# Altium integrated library TI Data Converters Analog to Digital Converter.IntLib: 2197 symbols (part 57 of 168)
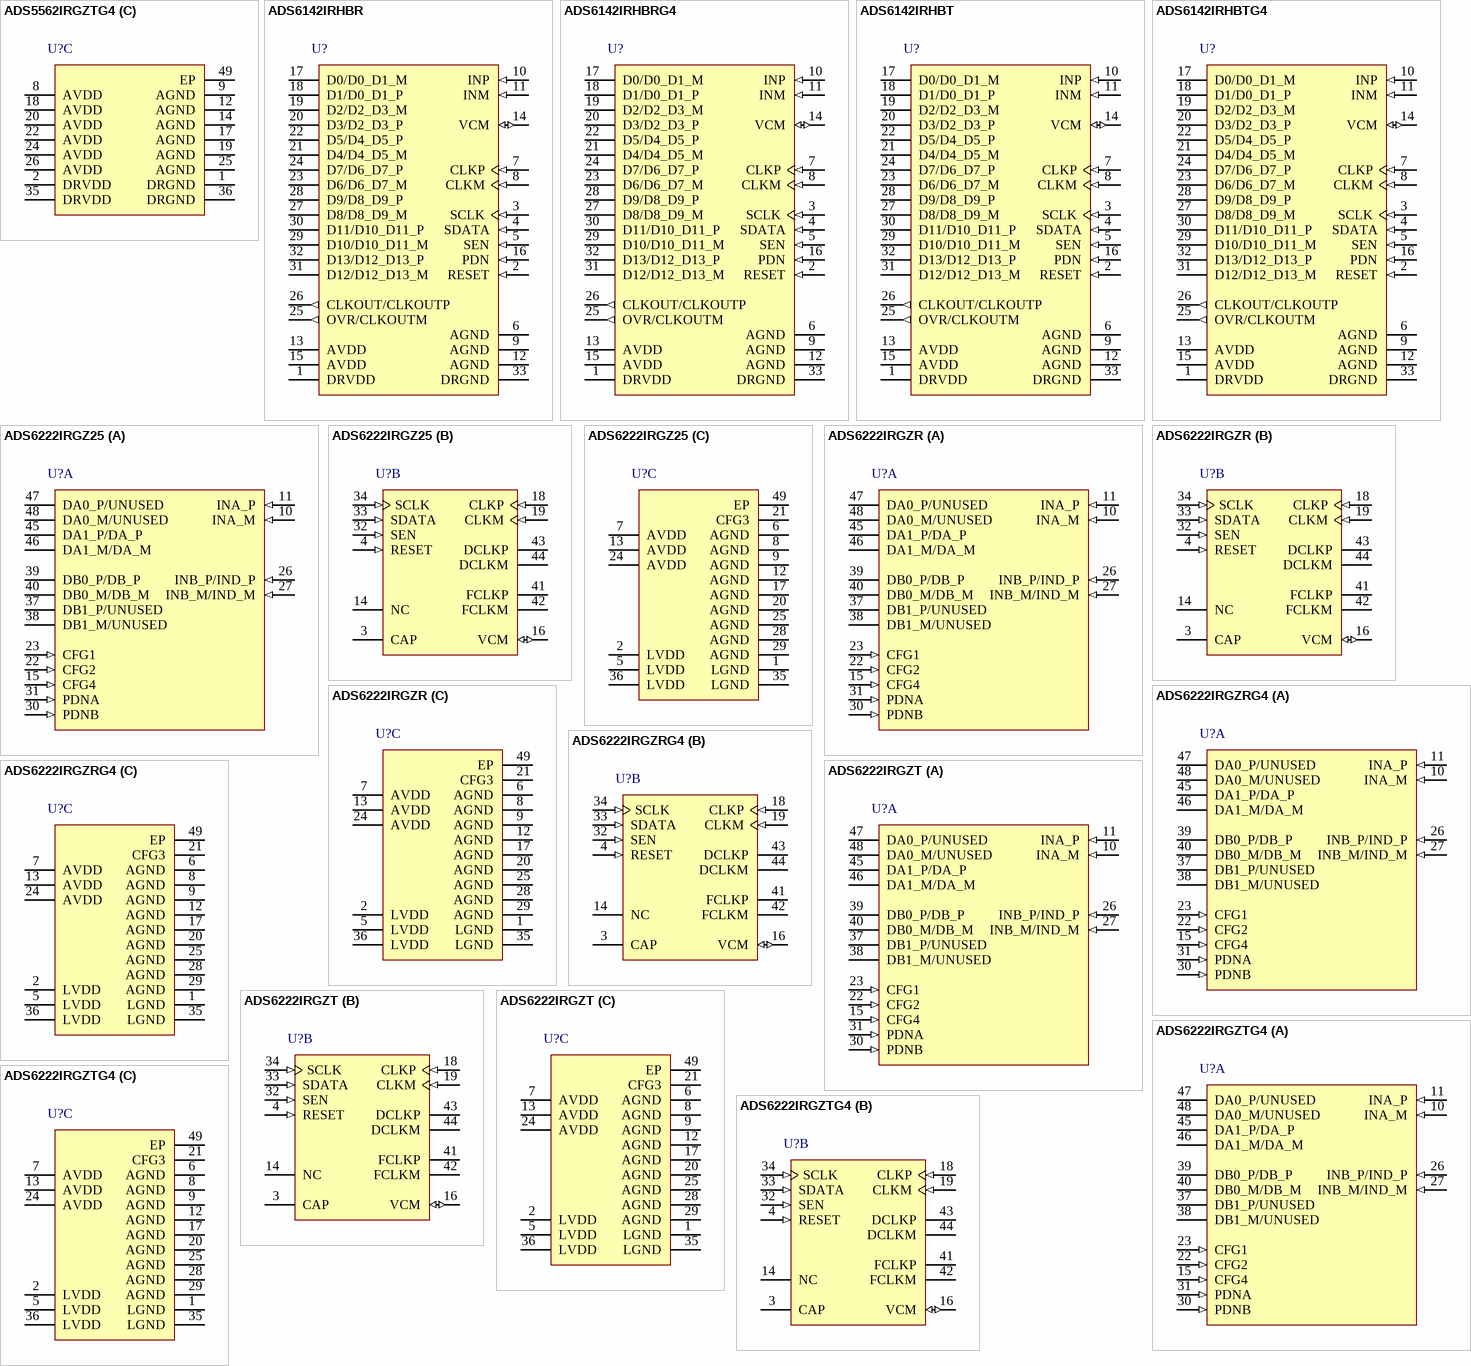
[diagram p182: symbols ADS5562IRGZTG4 to ADS6222IRGZTG4]

## ADS6222IRGZT
designator U?
Dual 12-Bit 65 MSPS ADC with Serialized LVDS Output, -40 to 85 degC, 48-pin QFN (RGZ48), Green (RoHS & no Sb/Br); Manufacturer: Texas Instruments; PartNumber: ADS6222IRGZT; # Input Channels: 2; Analog Voltage AV/DD(Max)(V): 3.6; Analog Voltage AV/DD(Min)(V): 3; Architecture: Pipeline; ENOB(Bits): 11.5; Interface: Parallel LVDS, Serial SPI Interface; Resolution(Bits): 12; Sample Rate (max)(SPS): 65M; SFDR(dB): 88; SINAD(dB): 71; SNR(dB): 71.2; SubFamily: High Speed ADC (>10MSPS); DatasheetVersion: SLAS543A; PackageVersion: 4204101/F, 06/2011; PackageReference: RGZ48-5150X5150TP; PackageDescription: 48-Pin Plastic Flat Pack, Body 7 x 7 mm, Pitch 0.5 mm; Supplier 1: Digi-Key; Supplier Part Number 1: ADS8383IBPFBTG4-ND; Supplier 2: Mouser; Supplier Part Number 2: 595-ADS8383IBPFBTG4; Digital Supply(Max)(V): 3.6; Digital Supply(Min)(V): 3; Eco-Plan: Green (RoHS & no Sb/Br); INL(Max)(+/-LSB): 2; Mounting Technology: Surface Mount; Code_JEDEC: MO-220; ComponentLink1Description: Manufacturer URL; ComponentLink1URL: http://www.ti.com/; ComponentLink2Description: Datasheet; ComponentLink2URL: http://www.ti.com/general/docs/lit/getliterature.tsp?genericPartNumber=ADS6222&fileType=pdf; ComponentLink3Description: Package Specification; ComponentLink3URL: http://www.ti.com/lit/ml/mpqf123e/mpqf123e.pdf
footprint TI-RGZ48-5150X5150TP_V (QFN, 48-Leads, Body 7x7mm, Pitch 0.5mm, Thermal Pad 5.15x5.15mm, TI Recommended)
part A pins: 10 INA_M (in) "Differential input signal pair, channel A. If unused, the pins should be tied to VCM. Do not float.", 11 INA_P (in) "Differential input signal pair, channel A. If unused, the pins should be tied to VCM. Do not float.", 15 CFG4 (in) "Parallel input pin. It controls data format and MSB or LSB first modes. See Table 12 for description", 22 CFG2 (in) "Parallel input pin. It controls 12x or 14x serialization and SDR bit clock capture edge. See Table 10 for description. For 12x serialization with DDR bit clock, tie to ground or AVDD.", 23 CFG1 (in) "Parallel input pin. It controls 1-wire or 2-wire interface and DDR or SDR bit clock selection. See Table 9 for description. Tie to AVDD for 2-wire interface with DDR bit clock.", 26 INB_P/IND_P (in), 27 INB_M/IND_M (in), 30 PDNB (in) "Channel B ADC power down control pin.", 31 PDNA (in) "Channel A ADC power down control pin.", 37 DB1_P/UNUSED (hiz), 38 DB1_M/UNUSED (hiz), 39 DB0_P/DB_P (hiz), 40 DB0_M/DB_M (hiz), 45 DA1_P/DA_P (hiz), 46 DA1_M/DA_M (hiz), 47 DA0_P/UNUSED (hiz), 48 DA0_M/UNUSED (hiz)
part B pins: 3 CAP "Connect 2-nF capacitor from pin to ground", 4 RESET (in) "Serial interface reset input. When using the serial interface mode, the user MUST initialize internal registers through hardware RESET by applying a high-going pulse on this pin or by using software reset option.Refer to the (See Datasheet)", 14 NC "Do Not Connect", 16 VCM (io) "Internal reference mode - common-mode voltage output External reference mode - reference input. The voltage forced on this pin sets the internal reference.", 18 CLKP (in) "Differential input clock pair", 19 CLKM (in) "Differential input clock pair", 32 SEN (in) "This pin functions as serial interface enable input when RESET is low. When RESET is high, it controls coarse gain and internal/external reference modes. See Table 6 for description. This pin has an internal pull-up resistor.", 33 SDATA (in) "This pin functions as serial interface data input when RESET is low. When RESET is high, it controls DESKEW, SYNC and global POWER DOWN modes (along with SCLK). See Table 5 for description. This pin has an internal pull-down (See Datasheet)", 34 SCLK (in) "This pin functions as serial interface clock input when RESET is low. When RESET is high, it controls DESKEW, SYNC and global POWER DOWN modes (along with SDATA). See Table 5 for description. This pin has an internal (See Datasheet)", 41 FCLKP (hiz) "Differential frame clock output pair", 42 FCLKM (hiz) "Differential frame clock output pair", 43 DCLKP (hiz) "Differential bit clock output pair", 44 DCLKM (hiz) "Differential bit clock output pair"
part C pins: 1 LGND (power) "Digital ground", 2 LVDD (power) "Digital power supply", 5 LVDD (power) "Digital power supply", 6 AGND (power) "Analog ground", 7 AVDD (power) "Analog power supply", 8 AGND (power) "Analog ground", 9 AGND (power) "Analog ground", 12 AGND (power) "Analog ground", 13 AVDD (power) "Analog power supply", 17 AGND (power) "Analog ground", 20 AGND (power) "Analog ground", 21 CFG3 (power) "RESERVED pin - TIE to ground.", 24 AVDD (power) "Analog power supply", 25 AGND (power) "Analog ground", 28 AGND (power) "Analog ground", 29 AGND (power) "Analog ground", 35 LGND (power) "Digital ground", 36 LVDD (power) "Digital power supply", 49 EP (power) "Connect to ground plane using multiple vias. Refer to Board Design Considerations in application section"

## ADS6222IRGZTG4
designator U?
Dual 12-Bit 65 MSPS ADC with Serialized LVDS Output, -40 to 85 degC, 48-pin QFN (RGZ48), Green (RoHS & no Sb/Br); Manufacturer: Texas Instruments; PartNumber: ADS6222IRGZTG4; # Input Channels: 2; Analog Voltage AV/DD(Max)(V): 3.6; Analog Voltage AV/DD(Min)(V): 3; Architecture: Pipeline; ENOB(Bits): 11.5; Interface: Parallel LVDS, Serial SPI Interface; Resolution(Bits): 12; Sample Rate (max)(SPS): 65M; SFDR(dB): 88; SINAD(dB): 71; SNR(dB): 71.2; SubFamily: High Speed ADC (>10MSPS); DatasheetVersion: SLAS543A; PackageVersion: 4204101/F, 06/2011; PackageReference: RGZ48-5150X5150TP; PackageDescription: 48-Pin Plastic Flat Pack, Body 7 x 7 mm, Pitch 0.5 mm; Supplier 1: Digi-Key; Supplier Part Number 1: 296-14066-2-ND; Supplier 2: Digi-Key; Supplier Part Number 2: 296-14066-1-ND; Supplier 3: Digi-Key; Supplier Part Number 3: 296-14066-6-ND; Supplier 4: Mouser; Supplier Part Number 4: 595-ADS8383IPFBT; Digital Supply(Max)(V): 3.6; Digital Supply(Min)(V): 3; Eco-Plan: Green (RoHS & no Sb/Br); INL(Max)(+/-LSB): 2; Mounting Technology: Surface Mount; Code_JEDEC: MO-220; ComponentLink1Description: Manufacturer URL; ComponentLink1URL: http://www.ti.com/; ComponentLink2Description: Datasheet; ComponentLink2URL: http://www.ti.com/general/docs/lit/getliterature.tsp?genericPartNumber=ADS6222&fileType=pdf; ComponentLink3Description: Package Specification; ComponentLink3URL: http://www.ti.com/lit/ml/mpqf123e/mpqf123e.pdf
footprint TI-RGZ48-5150X5150TP_V (QFN, 48-Leads, Body 7x7mm, Pitch 0.5mm, Thermal Pad 5.15x5.15mm, TI Recommended)
part A pins: 10 INA_M (in) "Differential input signal pair, channel A. If unused, the pins should be tied to VCM. Do not float.", 11 INA_P (in) "Differential input signal pair, channel A. If unused, the pins should be tied to VCM. Do not float.", 15 CFG4 (in) "Parallel input pin. It controls data format and MSB or LSB first modes. See Table 12 for description", 22 CFG2 (in) "Parallel input pin. It controls 12x or 14x serialization and SDR bit clock capture edge. See Table 10 for description. For 12x serialization with DDR bit clock, tie to ground or AVDD.", 23 CFG1 (in) "Parallel input pin. It controls 1-wire or 2-wire interface and DDR or SDR bit clock selection. See Table 9 for description. Tie to AVDD for 2-wire interface with DDR bit clock.", 26 INB_P/IND_P (in), 27 INB_M/IND_M (in), 30 PDNB (in) "Channel B ADC power down control pin.", 31 PDNA (in) "Channel A ADC power down control pin.", 37 DB1_P/UNUSED (hiz), 38 DB1_M/UNUSED (hiz), 39 DB0_P/DB_P (hiz), 40 DB0_M/DB_M (hiz), 45 DA1_P/DA_P (hiz), 46 DA1_M/DA_M (hiz), 47 DA0_P/UNUSED (hiz), 48 DA0_M/UNUSED (hiz)
part B pins: 3 CAP "Connect 2-nF capacitor from pin to ground", 4 RESET (in) "Serial interface reset input. When using the serial interface mode, the user MUST initialize internal registers through hardware RESET by applying a high-going pulse on this pin or by using software reset option.Refer to the (See Datasheet)", 14 NC "Do Not Connect", 16 VCM (io) "Internal reference mode - common-mode voltage output External reference mode - reference input. The voltage forced on this pin sets the internal reference.", 18 CLKP (in) "Differential input clock pair", 19 CLKM (in) "Differential input clock pair", 32 SEN (in) "This pin functions as serial interface enable input when RESET is low. When RESET is high, it controls coarse gain and internal/external reference modes. See Table 6 for description. This pin has an internal pull-up resistor.", 33 SDATA (in) "This pin functions as serial interface data input when RESET is low. When RESET is high, it controls DESKEW, SYNC and global POWER DOWN modes (along with SCLK). See Table 5 for description. This pin has an internal pull-down (See Datasheet)", 34 SCLK (in) "This pin functions as serial interface clock input when RESET is low. When RESET is high, it controls DESKEW, SYNC and global POWER DOWN modes (along with SDATA). See Table 5 for description. This pin has an internal (See Datasheet)", 41 FCLKP (hiz) "Differential frame clock output pair", 42 FCLKM (hiz) "Differential frame clock output pair", 43 DCLKP (hiz) "Differential bit clock output pair", 44 DCLKM (hiz) "Differential bit clock output pair"
part C pins: 1 LGND (power) "Digital ground", 2 LVDD (power) "Digital power supply", 5 LVDD (power) "Digital power supply", 6 AGND (power) "Analog ground", 7 AVDD (power) "Analog power supply", 8 AGND (power) "Analog ground", 9 AGND (power) "Analog ground", 12 AGND (power) "Analog ground", 13 AVDD (power) "Analog power supply", 17 AGND (power) "Analog ground", 20 AGND (power) "Analog ground", 21 CFG3 (power) "RESERVED pin - TIE to ground.", 24 AVDD (power) "Analog power supply", 25 AGND (power) "Analog ground", 28 AGND (power) "Analog ground", 29 AGND (power) "Analog ground", 35 LGND (power) "Digital ground", 36 LVDD (power) "Digital power supply", 49 EP (power) "Connect to ground plane using multiple vias. Refer to Board Design Considerations in application section"

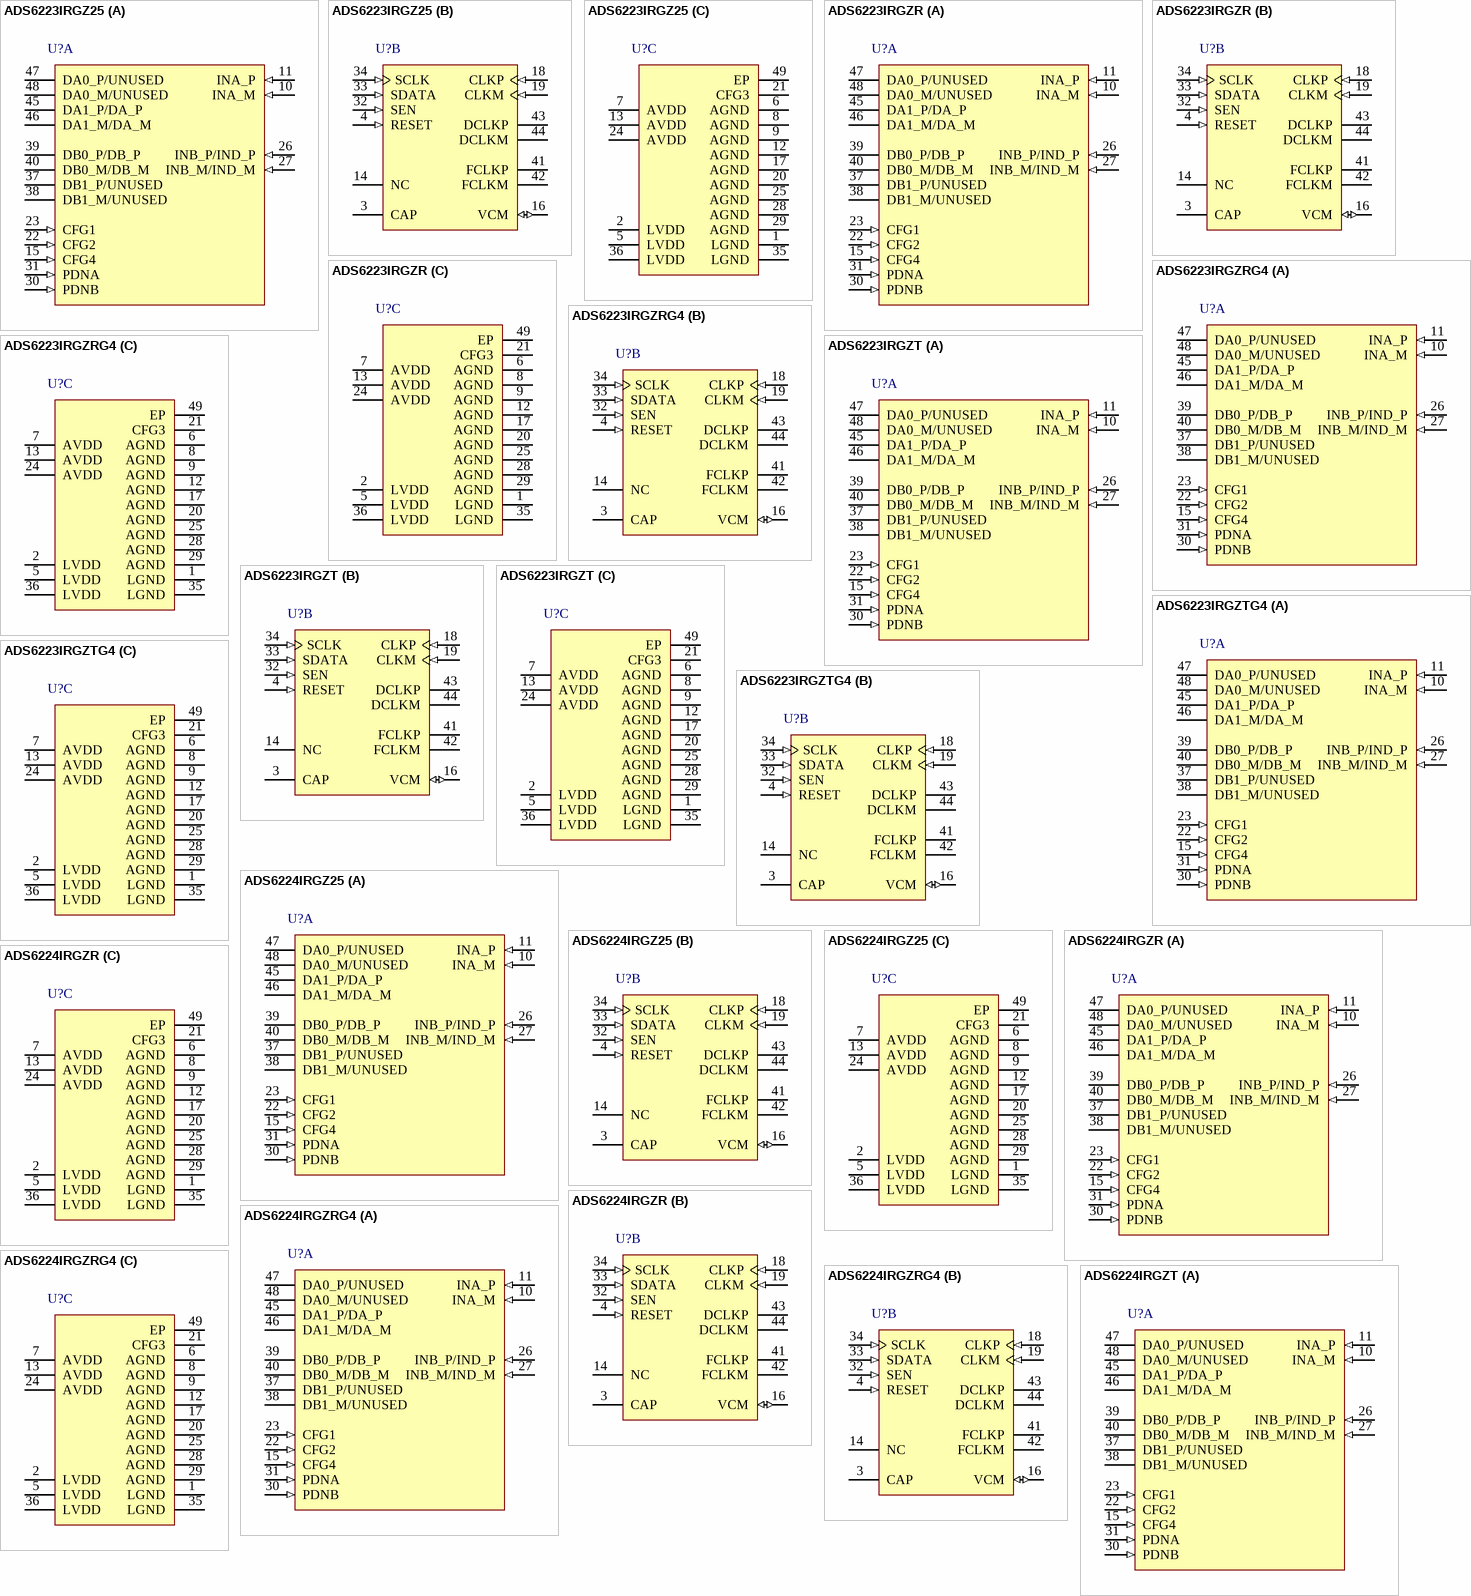
[diagram p56: symbols ADS6223IRGZ25 to ADS6224IRGZT]

## ADS6223IRGZ25
designator U?
Dual 12-Bit 80 MSPS ADC with Serialized LVDS Output, -40 to 85 degC, 48-pin QFN (RGZ48), Green (RoHS & no Sb/Br); Manufacturer: Texas Instruments; PartNumber: ADS6223IRGZ25; # Input Channels: 2; Analog Voltage AV/DD(Max)(V): 3.6; Analog Voltage AV/DD(Min)(V): 3; Architecture: Pipeline; ENOB(Bits): 11.5; Interface: Parallel LVDS, Serial SPI Interface; Resolution(Bits): 12; Sample Rate (max)(SPS): 80M; SFDR(dB): 87; SINAD(dB): 70.9; SNR(dB): 71.1; SubFamily: High Speed ADC (>10MSPS); DatasheetVersion: SLAS543A; PackageVersion: 4204101/F, 06/2011; PackageReference: RGZ48-5150X5150TP; PackageDescription: 48-Pin Plastic Flat Pack, Body 7 x 7 mm, Pitch 0.5 mm; Supplier 1: Digi-Key; Supplier Part Number 1: ADS8383IPFBTG4-ND; Supplier 2: Mouser; Supplier Part Number 2: 595-ADS8383IPFBTG4; Digital Supply(Max)(V): 3.6; Digital Supply(Min)(V): 3; Eco-Plan: Green (RoHS & no Sb/Br); INL(Max)(+/-LSB): 2; Mounting Technology: Surface Mount; Code_JEDEC: MO-220; ComponentLink1Description: Manufacturer URL; ComponentLink1URL: http://www.ti.com/; ComponentLink2Description: Datasheet; ComponentLink2URL: http://www.ti.com/general/docs/lit/getliterature.tsp?genericPartNumber=ADS6223&fileType=pdf; ComponentLink3Description: Package Specification; ComponentLink3URL: http://www.ti.com/lit/ml/mpqf123e/mpqf123e.pdf
footprint TI-RGZ48-5150X5150TP_V (QFN, 48-Leads, Body 7x7mm, Pitch 0.5mm, Thermal Pad 5.15x5.15mm, TI Recommended)
part A pins: 10 INA_M (in) "Differential input signal pair, channel A. If unused, the pins should be tied to VCM. Do not float.", 11 INA_P (in) "Differential input signal pair, channel A. If unused, the pins should be tied to VCM. Do not float.", 15 CFG4 (in) "Parallel input pin. It controls data format and MSB or LSB first modes. See Table 12 for description", 22 CFG2 (in) "Parallel input pin. It controls 12x or 14x serialization and SDR bit clock capture edge. See Table 10 for description. For 12x serialization with DDR bit clock, tie to ground or AVDD.", 23 CFG1 (in) "Parallel input pin. It controls 1-wire or 2-wire interface and DDR or SDR bit clock selection. See Table 9 for description. Tie to AVDD for 2-wire interface with DDR bit clock.", 26 INB_P/IND_P (in), 27 INB_M/IND_M (in), 30 PDNB (in) "Channel B ADC power down control pin.", 31 PDNA (in) "Channel A ADC power down control pin.", 37 DB1_P/UNUSED (hiz), 38 DB1_M/UNUSED (hiz), 39 DB0_P/DB_P (hiz), 40 DB0_M/DB_M (hiz), 45 DA1_P/DA_P (hiz), 46 DA1_M/DA_M (hiz), 47 DA0_P/UNUSED (hiz), 48 DA0_M/UNUSED (hiz)
part B pins: 3 CAP "Connect 2-nF capacitor from pin to ground", 4 RESET (in) "Serial interface reset input. When using the serial interface mode, the user MUST initialize internal registers through hardware RESET by applying a high-going pulse on this pin or by using software reset option.Refer to the (See Datasheet)", 14 NC "Do Not Connect", 16 VCM (io) "Internal reference mode - common-mode voltage output External reference mode - reference input. The voltage forced on this pin sets the internal reference.", 18 CLKP (in) "Differential input clock pair", 19 CLKM (in) "Differential input clock pair", 32 SEN (in) "This pin functions as serial interface enable input when RESET is low. When RESET is high, it controls coarse gain and internal/external reference modes. See Table 6 for description. This pin has an internal pull-up resistor.", 33 SDATA (in) "This pin functions as serial interface data input when RESET is low. When RESET is high, it controls DESKEW, SYNC and global POWER DOWN modes (along with SCLK). See Table 5 for description. This pin has an internal pull-down (See Datasheet)", 34 SCLK (in) "This pin functions as serial interface clock input when RESET is low. When RESET is high, it controls DESKEW, SYNC and global POWER DOWN modes (along with SDATA). See Table 5 for description. This pin has an internal (See Datasheet)", 41 FCLKP (hiz) "Differential frame clock output pair", 42 FCLKM (hiz) "Differential frame clock output pair", 43 DCLKP (hiz) "Differential bit clock output pair", 44 DCLKM (hiz) "Differential bit clock output pair"
part C pins: 1 LGND (power) "Digital ground", 2 LVDD (power) "Digital power supply", 5 LVDD (power) "Digital power supply", 6 AGND (power) "Analog ground", 7 AVDD (power) "Analog power supply", 8 AGND (power) "Analog ground", 9 AGND (power) "Analog ground", 12 AGND (power) "Analog ground", 13 AVDD (power) "Analog power supply", 17 AGND (power) "Analog ground", 20 AGND (power) "Analog ground", 21 CFG3 (power) "RESERVED pin - TIE to ground.", 24 AVDD (power) "Analog power supply", 25 AGND (power) "Analog ground", 28 AGND (power) "Analog ground", 29 AGND (power) "Analog ground", 35 LGND (power) "Digital ground", 36 LVDD (power) "Digital power supply", 49 EP (power) "Connect to ground plane using multiple vias. Refer to Board Design Considerations in application section"

## ADS6223IRGZR
designator U?
Dual 12-Bit 80 MSPS ADC with Serialized LVDS Output, -40 to 85 degC, 48-pin QFN (RGZ48), Green (RoHS & no Sb/Br); Manufacturer: Texas Instruments; PartNumber: ADS6223IRGZR; # Input Channels: 2; Analog Voltage AV/DD(Max)(V): 3.6; Analog Voltage AV/DD(Min)(V): 3; Architecture: Pipeline; ENOB(Bits): 11.5; Interface: Parallel LVDS, Serial SPI Interface; Resolution(Bits): 12; Sample Rate (max)(SPS): 80M; SFDR(dB): 87; SINAD(dB): 70.9; SNR(dB): 71.1; SubFamily: High Speed ADC (>10MSPS); DatasheetVersion: SLAS543A; PackageVersion: 4204101/F, 06/2011; PackageReference: RGZ48-5150X5150TP; PackageDescription: 48-Pin Plastic Flat Pack, Body 7 x 7 mm, Pitch 0.5 mm; Supplier 1: Digi-Key; Supplier Part Number 1: 296-13447-ND; Supplier 2: Mouser; Supplier Part Number 2: 595-ADS5204IPFB; Digital Supply(Max)(V): 3.6; Digital Supply(Min)(V): 3; Eco-Plan: Green (RoHS & no Sb/Br); INL(Max)(+/-LSB): 2; Mounting Technology: Surface Mount; Code_JEDEC: MO-220; ComponentLink1Description: Manufacturer URL; ComponentLink1URL: http://www.ti.com/; ComponentLink2Description: Datasheet; ComponentLink2URL: http://www.ti.com/general/docs/lit/getliterature.tsp?genericPartNumber=ADS6223&fileType=pdf; ComponentLink3Description: Package Specification; ComponentLink3URL: http://www.ti.com/lit/ml/mpqf123e/mpqf123e.pdf
footprint TI-RGZ48-5150X5150TP_V (QFN, 48-Leads, Body 7x7mm, Pitch 0.5mm, Thermal Pad 5.15x5.15mm, TI Recommended)
part A pins: 10 INA_M (in) "Differential input signal pair, channel A. If unused, the pins should be tied to VCM. Do not float.", 11 INA_P (in) "Differential input signal pair, channel A. If unused, the pins should be tied to VCM. Do not float.", 15 CFG4 (in) "Parallel input pin. It controls data format and MSB or LSB first modes. See Table 12 for description", 22 CFG2 (in) "Parallel input pin. It controls 12x or 14x serialization and SDR bit clock capture edge. See Table 10 for description. For 12x serialization with DDR bit clock, tie to ground or AVDD.", 23 CFG1 (in) "Parallel input pin. It controls 1-wire or 2-wire interface and DDR or SDR bit clock selection. See Table 9 for description. Tie to AVDD for 2-wire interface with DDR bit clock.", 26 INB_P/IND_P (in), 27 INB_M/IND_M (in), 30 PDNB (in) "Channel B ADC power down control pin.", 31 PDNA (in) "Channel A ADC power down control pin.", 37 DB1_P/UNUSED (hiz), 38 DB1_M/UNUSED (hiz), 39 DB0_P/DB_P (hiz), 40 DB0_M/DB_M (hiz), 45 DA1_P/DA_P (hiz), 46 DA1_M/DA_M (hiz), 47 DA0_P/UNUSED (hiz), 48 DA0_M/UNUSED (hiz)
part B pins: 3 CAP "Connect 2-nF capacitor from pin to ground", 4 RESET (in) "Serial interface reset input. When using the serial interface mode, the user MUST initialize internal registers through hardware RESET by applying a high-going pulse on this pin or by using software reset option.Refer to the (See Datasheet)", 14 NC "Do Not Connect", 16 VCM (io) "Internal reference mode - common-mode voltage output External reference mode - reference input. The voltage forced on this pin sets the internal reference.", 18 CLKP (in) "Differential input clock pair", 19 CLKM (in) "Differential input clock pair", 32 SEN (in) "This pin functions as serial interface enable input when RESET is low. When RESET is high, it controls coarse gain and internal/external reference modes. See Table 6 for description. This pin has an internal pull-up resistor.", 33 SDATA (in) "This pin functions as serial interface data input when RESET is low. When RESET is high, it controls DESKEW, SYNC and global POWER DOWN modes (along with SCLK). See Table 5 for description. This pin has an internal pull-down (See Datasheet)", 34 SCLK (in) "This pin functions as serial interface clock input when RESET is low. When RESET is high, it controls DESKEW, SYNC and global POWER DOWN modes (along with SDATA). See Table 5 for description. This pin has an internal (See Datasheet)", 41 FCLKP (hiz) "Differential frame clock output pair", 42 FCLKM (hiz) "Differential frame clock output pair", 43 DCLKP (hiz) "Differential bit clock output pair", 44 DCLKM (hiz) "Differential bit clock output pair"
part C pins: 1 LGND (power) "Digital ground", 2 LVDD (power) "Digital power supply", 5 LVDD (power) "Digital power supply", 6 AGND (power) "Analog ground", 7 AVDD (power) "Analog power supply", 8 AGND (power) "Analog ground", 9 AGND (power) "Analog ground", 12 AGND (power) "Analog ground", 13 AVDD (power) "Analog power supply", 17 AGND (power) "Analog ground", 20 AGND (power) "Analog ground", 21 CFG3 (power) "RESERVED pin - TIE to ground.", 24 AVDD (power) "Analog power supply", 25 AGND (power) "Analog ground", 28 AGND (power) "Analog ground", 29 AGND (power) "Analog ground", 35 LGND (power) "Digital ground", 36 LVDD (power) "Digital power supply", 49 EP (power) "Connect to ground plane using multiple vias. Refer to Board Design Considerations in application section"

## ADS6223IRGZRG4
designator U?
Dual 12-Bit 80 MSPS ADC with Serialized LVDS Output, -40 to 85 degC, 48-pin QFN (RGZ48), Green (RoHS & no Sb/Br); Manufacturer: Texas Instruments; PartNumber: ADS6223IRGZRG4; # Input Channels: 2; Analog Voltage AV/DD(Max)(V): 3.6; Analog Voltage AV/DD(Min)(V): 3; Architecture: Pipeline; ENOB(Bits): 11.5; Interface: Parallel LVDS, Serial SPI Interface; Resolution(Bits): 12; Sample Rate (max)(SPS): 80M; SFDR(dB): 87; SINAD(dB): 70.9; SNR(dB): 71.1; SubFamily: High Speed ADC (>10MSPS); DatasheetVersion: SLAS543A; PackageVersion: 4204101/F, 06/2011; PackageReference: RGZ48-5150X5150TP; PackageDescription: 48-Pin Plastic Flat Pack, Body 7 x 7 mm, Pitch 0.5 mm; Supplier 1: Digi-Key; Supplier Part Number 1: ADS5204IPFBG4-ND; Supplier 2: Mouser; Supplier Part Number 2: 595-ADS5204IPFBG4; Digital Supply(Max)(V): 3.6; Digital Supply(Min)(V): 3; Eco-Plan: Green (RoHS & no Sb/Br); INL(Max)(+/-LSB): 2; Mounting Technology: Surface Mount; Code_JEDEC: MO-220; ComponentLink1Description: Manufacturer URL; ComponentLink1URL: http://www.ti.com/; ComponentLink2Description: Datasheet; ComponentLink2URL: http://www.ti.com/general/docs/lit/getliterature.tsp?genericPartNumber=ADS6223&fileType=pdf; ComponentLink3Description: Package Specification; ComponentLink3URL: http://www.ti.com/lit/ml/mpqf123e/mpqf123e.pdf
footprint TI-RGZ48-5150X5150TP_V (QFN, 48-Leads, Body 7x7mm, Pitch 0.5mm, Thermal Pad 5.15x5.15mm, TI Recommended)
part A pins: 10 INA_M (in) "Differential input signal pair, channel A. If unused, the pins should be tied to VCM. Do not float.", 11 INA_P (in) "Differential input signal pair, channel A. If unused, the pins should be tied to VCM. Do not float.", 15 CFG4 (in) "Parallel input pin. It controls data format and MSB or LSB first modes. See Table 12 for description", 22 CFG2 (in) "Parallel input pin. It controls 12x or 14x serialization and SDR bit clock capture edge. See Table 10 for description. For 12x serialization with DDR bit clock, tie to ground or AVDD.", 23 CFG1 (in) "Parallel input pin. It controls 1-wire or 2-wire interface and DDR or SDR bit clock selection. See Table 9 for description. Tie to AVDD for 2-wire interface with DDR bit clock.", 26 INB_P/IND_P (in), 27 INB_M/IND_M (in), 30 PDNB (in) "Channel B ADC power down control pin.", 31 PDNA (in) "Channel A ADC power down control pin.", 37 DB1_P/UNUSED (hiz), 38 DB1_M/UNUSED (hiz), 39 DB0_P/DB_P (hiz), 40 DB0_M/DB_M (hiz), 45 DA1_P/DA_P (hiz), 46 DA1_M/DA_M (hiz), 47 DA0_P/UNUSED (hiz), 48 DA0_M/UNUSED (hiz)
part B pins: 3 CAP "Connect 2-nF capacitor from pin to ground", 4 RESET (in) "Serial interface reset input. When using the serial interface mode, the user MUST initialize internal registers through hardware RESET by applying a high-going pulse on this pin or by using software reset option.Refer to the (See Datasheet)", 14 NC "Do Not Connect", 16 VCM (io) "Internal reference mode - common-mode voltage output External reference mode - reference input. The voltage forced on this pin sets the internal reference.", 18 CLKP (in) "Differential input clock pair", 19 CLKM (in) "Differential input clock pair", 32 SEN (in) "This pin functions as serial interface enable input when RESET is low. When RESET is high, it controls coarse gain and internal/external reference modes. See Table 6 for description. This pin has an internal pull-up resistor.", 33 SDATA (in) "This pin functions as serial interface data input when RESET is low. When RESET is high, it controls DESKEW, SYNC and global POWER DOWN modes (along with SCLK). See Table 5 for description. This pin has an internal pull-down (See Datasheet)", 34 SCLK (in) "This pin functions as serial interface clock input when RESET is low. When RESET is high, it controls DESKEW, SYNC and global POWER DOWN modes (along with SDATA). See Table 5 for description. This pin has an internal (See Datasheet)", 41 FCLKP (hiz) "Differential frame clock output pair", 42 FCLKM (hiz) "Differential frame clock output pair", 43 DCLKP (hiz) "Differential bit clock output pair", 44 DCLKM (hiz) "Differential bit clock output pair"
part C pins: 1 LGND (power) "Digital ground", 2 LVDD (power) "Digital power supply", 5 LVDD (power) "Digital power supply", 6 AGND (power) "Analog ground", 7 AVDD (power) "Analog power supply", 8 AGND (power) "Analog ground", 9 AGND (power) "Analog ground", 12 AGND (power) "Analog ground", 13 AVDD (power) "Analog power supply", 17 AGND (power) "Analog ground", 20 AGND (power) "Analog ground", 21 CFG3 (power) "RESERVED pin - TIE to ground.", 24 AVDD (power) "Analog power supply", 25 AGND (power) "Analog ground", 28 AGND (power) "Analog ground", 29 AGND (power) "Analog ground", 35 LGND (power) "Digital ground", 36 LVDD (power) "Digital power supply", 49 EP (power) "Connect to ground plane using multiple vias. Refer to Board Design Considerations in application section"

## ADS6223IRGZT
designator U?
Dual 12-Bit 80 MSPS ADC with Serialized LVDS Output, -40 to 85 degC, 48-pin QFN (RGZ48), Green (RoHS & no Sb/Br); Manufacturer: Texas Instruments; PartNumber: ADS6223IRGZT; # Input Channels: 2; Analog Voltage AV/DD(Max)(V): 3.6; Analog Voltage AV/DD(Min)(V): 3; Architecture: Pipeline; ENOB(Bits): 11.5; Interface: Parallel LVDS, Serial SPI Interface; Resolution(Bits): 12; Sample Rate (max)(SPS): 80M; SFDR(dB): 87; SINAD(dB): 70.9; SNR(dB): 71.1; SubFamily: High Speed ADC (>10MSPS); DatasheetVersion: SLAS543A; PackageVersion: 4204101/F, 06/2011; PackageReference: RGZ48-5150X5150TP; PackageDescription: 48-Pin Plastic Flat Pack, Body 7 x 7 mm, Pitch 0.5 mm; Supplier 1: Digi-Key; Supplier Part Number 1: ADS5204IPFBR-ND; Supplier 2: Mouser; Supplier Part Number 2: 595-ADS5204IPFBR; Digital Supply(Max)(V): 3.6; Digital Supply(Min)(V): 3; Eco-Plan: Green (RoHS & no Sb/Br); INL(Max)(+/-LSB): 2; Mounting Technology: Surface Mount; Code_JEDEC: MO-220; ComponentLink1Description: Manufacturer URL; ComponentLink1URL: http://www.ti.com/; ComponentLink2Description: Datasheet; ComponentLink2URL: http://www.ti.com/general/docs/lit/getliterature.tsp?genericPartNumber=ADS6223&fileType=pdf; ComponentLink3Description: Package Specification; ComponentLink3URL: http://www.ti.com/lit/ml/mpqf123e/mpqf123e.pdf
footprint TI-RGZ48-5150X5150TP_V (QFN, 48-Leads, Body 7x7mm, Pitch 0.5mm, Thermal Pad 5.15x5.15mm, TI Recommended)
part A pins: 10 INA_M (in) "Differential input signal pair, channel A. If unused, the pins should be tied to VCM. Do not float.", 11 INA_P (in) "Differential input signal pair, channel A. If unused, the pins should be tied to VCM. Do not float.", 15 CFG4 (in) "Parallel input pin. It controls data format and MSB or LSB first modes. See Table 12 for description", 22 CFG2 (in) "Parallel input pin. It controls 12x or 14x serialization and SDR bit clock capture edge. See Table 10 for description. For 12x serialization with DDR bit clock, tie to ground or AVDD.", 23 CFG1 (in) "Parallel input pin. It controls 1-wire or 2-wire interface and DDR or SDR bit clock selection. See Table 9 for description. Tie to AVDD for 2-wire interface with DDR bit clock.", 26 INB_P/IND_P (in), 27 INB_M/IND_M (in), 30 PDNB (in) "Channel B ADC power down control pin.", 31 PDNA (in) "Channel A ADC power down control pin.", 37 DB1_P/UNUSED (hiz), 38 DB1_M/UNUSED (hiz), 39 DB0_P/DB_P (hiz), 40 DB0_M/DB_M (hiz), 45 DA1_P/DA_P (hiz), 46 DA1_M/DA_M (hiz), 47 DA0_P/UNUSED (hiz), 48 DA0_M/UNUSED (hiz)
part B pins: 3 CAP "Connect 2-nF capacitor from pin to ground", 4 RESET (in) "Serial interface reset input. When using the serial interface mode, the user MUST initialize internal registers through hardware RESET by applying a high-going pulse on this pin or by using software reset option.Refer to the (See Datasheet)", 14 NC "Do Not Connect", 16 VCM (io) "Internal reference mode - common-mode voltage output External reference mode - reference input. The voltage forced on this pin sets the internal reference.", 18 CLKP (in) "Differential input clock pair", 19 CLKM (in) "Differential input clock pair", 32 SEN (in) "This pin functions as serial interface enable input when RESET is low. When RESET is high, it controls coarse gain and internal/external reference modes. See Table 6 for description. This pin has an internal pull-up resistor.", 33 SDATA (in) "This pin functions as serial interface data input when RESET is low. When RESET is high, it controls DESKEW, SYNC and global POWER DOWN modes (along with SCLK). See Table 5 for description. This pin has an internal pull-down (See Datasheet)", 34 SCLK (in) "This pin functions as serial interface clock input when RESET is low. When RESET is high, it controls DESKEW, SYNC and global POWER DOWN modes (along with SDATA). See Table 5 for description. This pin has an internal (See Datasheet)", 41 FCLKP (hiz) "Differential frame clock output pair", 42 FCLKM (hiz) "Differential frame clock output pair", 43 DCLKP (hiz) "Differential bit clock output pair", 44 DCLKM (hiz) "Differential bit clock output pair"
part C pins: 1 LGND (power) "Digital ground", 2 LVDD (power) "Digital power supply", 5 LVDD (power) "Digital power supply", 6 AGND (power) "Analog ground", 7 AVDD (power) "Analog power supply", 8 AGND (power) "Analog ground", 9 AGND (power) "Analog ground", 12 AGND (power) "Analog ground", 13 AVDD (power) "Analog power supply", 17 AGND (power) "Analog ground", 20 AGND (power) "Analog ground", 21 CFG3 (power) "RESERVED pin - TIE to ground.", 24 AVDD (power) "Analog power supply", 25 AGND (power) "Analog ground", 28 AGND (power) "Analog ground", 29 AGND (power) "Analog ground", 35 LGND (power) "Digital ground", 36 LVDD (power) "Digital power supply", 49 EP (power) "Connect to ground plane using multiple vias. Refer to Board Design Considerations in application section"

## ADS6223IRGZTG4
designator U?
Dual 12-Bit 80 MSPS ADC with Serialized LVDS Output, -40 to 85 degC, 48-pin QFN (RGZ48), Green (RoHS & no Sb/Br); Manufacturer: Texas Instruments; PartNumber: ADS6223IRGZTG4; # Input Channels: 2; Analog Voltage AV/DD(Max)(V): 3.6; Analog Voltage AV/DD(Min)(V): 3; Architecture: Pipeline; ENOB(Bits): 11.5; Interface: Parallel LVDS, Serial SPI Interface; Resolution(Bits): 12; Sample Rate (max)(SPS): 80M; SFDR(dB): 87; SINAD(dB): 70.9; SNR(dB): 71.1; SubFamily: High Speed ADC (>10MSPS); DatasheetVersion: SLAS543A; PackageVersion: 4204101/F, 06/2011; PackageReference: RGZ48-5150X5150TP; PackageDescription: 48-Pin Plastic Flat Pack, Body 7 x 7 mm, Pitch 0.5 mm; Supplier 1: Digi-Key; Supplier Part Number 1: ADS5204IPFBRG4-ND; Supplier 2: Mouser; Supplier Part Number 2: 595-ADS5204IPFBRG4; Digital Supply(Max)(V): 3.6; Digital Supply(Min)(V): 3; Eco-Plan: Green (RoHS & no Sb/Br); INL(Max)(+/-LSB): 2; Mounting Technology: Surface Mount; Code_JEDEC: MO-220; ComponentLink1Description: Manufacturer URL; ComponentLink1URL: http://www.ti.com/; ComponentLink2Description: Datasheet; ComponentLink2URL: http://www.ti.com/general/docs/lit/getliterature.tsp?genericPartNumber=ADS6223&fileType=pdf; ComponentLink3Description: Package Specification; ComponentLink3URL: http://www.ti.com/lit/ml/mpqf123e/mpqf123e.pdf
footprint TI-RGZ48-5150X5150TP_V (QFN, 48-Leads, Body 7x7mm, Pitch 0.5mm, Thermal Pad 5.15x5.15mm, TI Recommended)
part A pins: 10 INA_M (in) "Differential input signal pair, channel A. If unused, the pins should be tied to VCM. Do not float.", 11 INA_P (in) "Differential input signal pair, channel A. If unused, the pins should be tied to VCM. Do not float.", 15 CFG4 (in) "Parallel input pin. It controls data format and MSB or LSB first modes. See Table 12 for description", 22 CFG2 (in) "Parallel input pin. It controls 12x or 14x serialization and SDR bit clock capture edge. See Table 10 for description. For 12x serialization with DDR bit clock, tie to ground or AVDD.", 23 CFG1 (in) "Parallel input pin. It controls 1-wire or 2-wire interface and DDR or SDR bit clock selection. See Table 9 for description. Tie to AVDD for 2-wire interface with DDR bit clock.", 26 INB_P/IND_P (in), 27 INB_M/IND_M (in), 30 PDNB (in) "Channel B ADC power down control pin.", 31 PDNA (in) "Channel A ADC power down control pin.", 37 DB1_P/UNUSED (hiz), 38 DB1_M/UNUSED (hiz), 39 DB0_P/DB_P (hiz), 40 DB0_M/DB_M (hiz), 45 DA1_P/DA_P (hiz), 46 DA1_M/DA_M (hiz), 47 DA0_P/UNUSED (hiz), 48 DA0_M/UNUSED (hiz)
part B pins: 3 CAP "Connect 2-nF capacitor from pin to ground", 4 RESET (in) "Serial interface reset input. When using the serial interface mode, the user MUST initialize internal registers through hardware RESET by applying a high-going pulse on this pin or by using software reset option.Refer to the (See Datasheet)", 14 NC "Do Not Connect", 16 VCM (io) "Internal reference mode - common-mode voltage output External reference mode - reference input. The voltage forced on this pin sets the internal reference.", 18 CLKP (in) "Differential input clock pair", 19 CLKM (in) "Differential input clock pair", 32 SEN (in) "This pin functions as serial interface enable input when RESET is low. When RESET is high, it controls coarse gain and internal/external reference modes. See Table 6 for description. This pin has an internal pull-up resistor.", 33 SDATA (in) "This pin functions as serial interface data input when RESET is low. When RESET is high, it controls DESKEW, SYNC and global POWER DOWN modes (along with SCLK). See Table 5 for description. This pin has an internal pull-down (See Datasheet)", 34 SCLK (in) "This pin functions as serial interface clock input when RESET is low. When RESET is high, it controls DESKEW, SYNC and global POWER DOWN modes (along with SDATA). See Table 5 for description. This pin has an internal (See Datasheet)", 41 FCLKP (hiz) "Differential frame clock output pair", 42 FCLKM (hiz) "Differential frame clock output pair", 43 DCLKP (hiz) "Differential bit clock output pair", 44 DCLKM (hiz) "Differential bit clock output pair"
part C pins: 1 LGND (power) "Digital ground", 2 LVDD (power) "Digital power supply", 5 LVDD (power) "Digital power supply", 6 AGND (power) "Analog ground", 7 AVDD (power) "Analog power supply", 8 AGND (power) "Analog ground", 9 AGND (power) "Analog ground", 12 AGND (power) "Analog ground", 13 AVDD (power) "Analog power supply", 17 AGND (power) "Analog ground", 20 AGND (power) "Analog ground", 21 CFG3 (power) "RESERVED pin - TIE to ground.", 24 AVDD (power) "Analog power supply", 25 AGND (power) "Analog ground", 28 AGND (power) "Analog ground", 29 AGND (power) "Analog ground", 35 LGND (power) "Digital ground", 36 LVDD (power) "Digital power supply", 49 EP (power) "Connect to ground plane using multiple vias. Refer to Board Design Considerations in application section"

## ADS6224IRGZ25
designator U?
Dual 12-Bit 105 MSPS ADC with Serialized LVDS Output, -40 to 85 degC, 48-pin QFN (RGZ48), Green (RoHS & no Sb/Br); Manufacturer: Texas Instruments; PartNumber: ADS6224IRGZ25; # Input Channels: 2; Analog Voltage AV/DD(Max)(V): 3.6; Analog Voltage AV/DD(Min)(V): 3; Architecture: Pipeline; ENOB(Bits): 11.4; INL(Max)(+/-LSB): 2.2; Interface: Parallel LVDS, Serial SPI Interface; Resolution(Bits): 12; Sample Rate (max)(SPS): 105M; SFDR(dB): 80; SINAD(dB): 69.8; SNR(dB): 70.8; SubFamily: High Speed ADC (>10MSPS); DatasheetVersion: SLAS543A; PackageVersion: 4204101/F, 06/2011; PackageReference: RGZ48-5150X5150TP; PackageDescription: 48-Pin Plastic Flat Pack, Body 7 x 7 mm, Pitch 0.5 mm; Supplier 1: Digi-Key; Supplier Part Number 1: 296-13446-ND; Supplier 2: Newark; Supplier Part Number 2: 74C7041; Supplier 3: Mouser; Supplier Part Number 3: 595-ADS5203IPFB; Digital Supply(Max)(V): 3.6; Digital Supply(Min)(V): 3; Eco-Plan: Green (RoHS & no Sb/Br); Mounting Technology: Surface Mount; Code_JEDEC: MO-220; ComponentLink1Description: Manufacturer URL; ComponentLink1URL: http://www.ti.com/; ComponentLink2Description: Datasheet; ComponentLink2URL: http://www.ti.com/general/docs/lit/getliterature.tsp?genericPartNumber=ADS6224&fileType=pdf; ComponentLink3Description: Package Specification; ComponentLink3URL: http://www.ti.com/lit/ml/mpqf123e/mpqf123e.pdf
footprint TI-RGZ48-5150X5150TP_V (QFN, 48-Leads, Body 7x7mm, Pitch 0.5mm, Thermal Pad 5.15x5.15mm, TI Recommended)
part A pins: 10 INA_M (in) "Differential input signal pair, channel A. If unused, the pins should be tied to VCM. Do not float.", 11 INA_P (in) "Differential input signal pair, channel A. If unused, the pins should be tied to VCM. Do not float.", 15 CFG4 (in) "Parallel input pin. It controls data format and MSB or LSB first modes. See Table 12 for description", 22 CFG2 (in) "Parallel input pin. It controls 12x or 14x serialization and SDR bit clock capture edge. See Table 10 for description. For 12x serialization with DDR bit clock, tie to ground or AVDD.", 23 CFG1 (in) "Parallel input pin. It controls 1-wire or 2-wire interface and DDR or SDR bit clock selection. See Table 9 for description. Tie to AVDD for 2-wire interface with DDR bit clock.", 26 INB_P/IND_P (in), 27 INB_M/IND_M (in), 30 PDNB (in) "Channel B ADC power down control pin.", 31 PDNA (in) "Channel A ADC power down control pin.", 37 DB1_P/UNUSED (hiz), 38 DB1_M/UNUSED (hiz), 39 DB0_P/DB_P (hiz), 40 DB0_M/DB_M (hiz), 45 DA1_P/DA_P (hiz), 46 DA1_M/DA_M (hiz), 47 DA0_P/UNUSED (hiz), 48 DA0_M/UNUSED (hiz)
part B pins: 3 CAP "Connect 2-nF capacitor from pin to ground", 4 RESET (in) "Serial interface reset input. When using the serial interface mode, the user MUST initialize internal registers through hardware RESET by applying a high-going pulse on this pin or by using software reset option.Refer to the (See Datasheet)", 14 NC "Do Not Connect", 16 VCM (io) "Internal reference mode - common-mode voltage output External reference mode - reference input. The voltage forced on this pin sets the internal reference.", 18 CLKP (in) "Differential input clock pair", 19 CLKM (in) "Differential input clock pair", 32 SEN (in) "This pin functions as serial interface enable input when RESET is low. When RESET is high, it controls coarse gain and internal/external reference modes. See Table 6 for description. This pin has an internal pull-up resistor.", 33 SDATA (in) "This pin functions as serial interface data input when RESET is low. When RESET is high, it controls DESKEW, SYNC and global POWER DOWN modes (along with SCLK). See Table 5 for description. This pin has an internal pull-down (See Datasheet)", 34 SCLK (in) "This pin functions as serial interface clock input when RESET is low. When RESET is high, it controls DESKEW, SYNC and global POWER DOWN modes (along with SDATA). See Table 5 for description. This pin has an internal (See Datasheet)", 41 FCLKP (hiz) "Differential frame clock output pair", 42 FCLKM (hiz) "Differential frame clock output pair", 43 DCLKP (hiz) "Differential bit clock output pair", 44 DCLKM (hiz) "Differential bit clock output pair"
part C pins: 1 LGND (power) "Digital ground", 2 LVDD (power) "Digital power supply", 5 LVDD (power) "Digital power supply", 6 AGND (power) "Analog ground", 7 AVDD (power) "Analog power supply", 8 AGND (power) "Analog ground", 9 AGND (power) "Analog ground", 12 AGND (power) "Analog ground", 13 AVDD (power) "Analog power supply", 17 AGND (power) "Analog ground", 20 AGND (power) "Analog ground", 21 CFG3 (power) "RESERVED pin - TIE to ground.", 24 AVDD (power) "Analog power supply", 25 AGND (power) "Analog ground", 28 AGND (power) "Analog ground", 29 AGND (power) "Analog ground", 35 LGND (power) "Digital ground", 36 LVDD (power) "Digital power supply", 49 EP (power) "Connect to ground plane using multiple vias. Refer to Board Design Considerations in application section"

## ADS6224IRGZR
designator U?
Dual 12-Bit 105 MSPS ADC with Serialized LVDS Output, -40 to 85 degC, 48-pin QFN (RGZ48), Green (RoHS & no Sb/Br); Manufacturer: Texas Instruments; PartNumber: ADS6224IRGZR; # Input Channels: 2; Analog Voltage AV/DD(Max)(V): 3.6; Analog Voltage AV/DD(Min)(V): 3; Architecture: Pipeline; ENOB(Bits): 11.4; INL(Max)(+/-LSB): 2.2; Interface: Parallel LVDS, Serial SPI Interface; Resolution(Bits): 12; Sample Rate (max)(SPS): 105M; SFDR(dB): 80; SINAD(dB): 69.8; SNR(dB): 70.8; SubFamily: High Speed ADC (>10MSPS); DatasheetVersion: SLAS543A; PackageVersion: 4204101/F, 06/2011; PackageReference: RGZ48-5150X5150TP; PackageDescription: 48-Pin Plastic Flat Pack, Body 7 x 7 mm, Pitch 0.5 mm; Supplier 1: Digi-Key; Supplier Part Number 1: ADS5203IPFBG4-ND; Supplier 2: Mouser; Supplier Part Number 2: 595-ADS5203IPFBG4; Digital Supply(Max)(V): 3.6; Digital Supply(Min)(V): 3; Eco-Plan: Green (RoHS & no Sb/Br); Mounting Technology: Surface Mount; Code_JEDEC: MO-220; ComponentLink1Description: Manufacturer URL; ComponentLink1URL: http://www.ti.com/; ComponentLink2Description: Datasheet; ComponentLink2URL: http://www.ti.com/general/docs/lit/getliterature.tsp?genericPartNumber=ADS6224&fileType=pdf; ComponentLink3Description: Package Specification; ComponentLink3URL: http://www.ti.com/lit/ml/mpqf123e/mpqf123e.pdf
footprint TI-RGZ48-5150X5150TP_V (QFN, 48-Leads, Body 7x7mm, Pitch 0.5mm, Thermal Pad 5.15x5.15mm, TI Recommended)
part A pins: 10 INA_M (in) "Differential input signal pair, channel A. If unused, the pins should be tied to VCM. Do not float.", 11 INA_P (in) "Differential input signal pair, channel A. If unused, the pins should be tied to VCM. Do not float.", 15 CFG4 (in) "Parallel input pin. It controls data format and MSB or LSB first modes. See Table 12 for description", 22 CFG2 (in) "Parallel input pin. It controls 12x or 14x serialization and SDR bit clock capture edge. See Table 10 for description. For 12x serialization with DDR bit clock, tie to ground or AVDD.", 23 CFG1 (in) "Parallel input pin. It controls 1-wire or 2-wire interface and DDR or SDR bit clock selection. See Table 9 for description. Tie to AVDD for 2-wire interface with DDR bit clock.", 26 INB_P/IND_P (in), 27 INB_M/IND_M (in), 30 PDNB (in) "Channel B ADC power down control pin.", 31 PDNA (in) "Channel A ADC power down control pin.", 37 DB1_P/UNUSED (hiz), 38 DB1_M/UNUSED (hiz), 39 DB0_P/DB_P (hiz), 40 DB0_M/DB_M (hiz), 45 DA1_P/DA_P (hiz), 46 DA1_M/DA_M (hiz), 47 DA0_P/UNUSED (hiz), 48 DA0_M/UNUSED (hiz)
part B pins: 3 CAP "Connect 2-nF capacitor from pin to ground", 4 RESET (in) "Serial interface reset input. When using the serial interface mode, the user MUST initialize internal registers through hardware RESET by applying a high-going pulse on this pin or by using software reset option.Refer to the (See Datasheet)", 14 NC "Do Not Connect", 16 VCM (io) "Internal reference mode - common-mode voltage output External reference mode - reference input. The voltage forced on this pin sets the internal reference.", 18 CLKP (in) "Differential input clock pair", 19 CLKM (in) "Differential input clock pair", 32 SEN (in) "This pin functions as serial interface enable input when RESET is low. When RESET is high, it controls coarse gain and internal/external reference modes. See Table 6 for description. This pin has an internal pull-up resistor.", 33 SDATA (in) "This pin functions as serial interface data input when RESET is low. When RESET is high, it controls DESKEW, SYNC and global POWER DOWN modes (along with SCLK). See Table 5 for description. This pin has an internal pull-down (See Datasheet)", 34 SCLK (in) "This pin functions as serial interface clock input when RESET is low. When RESET is high, it controls DESKEW, SYNC and global POWER DOWN modes (along with SDATA). See Table 5 for description. This pin has an internal (See Datasheet)", 41 FCLKP (hiz) "Differential frame clock output pair", 42 FCLKM (hiz) "Differential frame clock output pair", 43 DCLKP (hiz) "Differential bit clock output pair", 44 DCLKM (hiz) "Differential bit clock output pair"
part C pins: 1 LGND (power) "Digital ground", 2 LVDD (power) "Digital power supply", 5 LVDD (power) "Digital power supply", 6 AGND (power) "Analog ground", 7 AVDD (power) "Analog power supply", 8 AGND (power) "Analog ground", 9 AGND (power) "Analog ground", 12 AGND (power) "Analog ground", 13 AVDD (power) "Analog power supply", 17 AGND (power) "Analog ground", 20 AGND (power) "Analog ground", 21 CFG3 (power) "RESERVED pin - TIE to ground.", 24 AVDD (power) "Analog power supply", 25 AGND (power) "Analog ground", 28 AGND (power) "Analog ground", 29 AGND (power) "Analog ground", 35 LGND (power) "Digital ground", 36 LVDD (power) "Digital power supply", 49 EP (power) "Connect to ground plane using multiple vias. Refer to Board Design Considerations in application section"

## ADS6224IRGZRG4
designator U?
Dual 12-Bit 105 MSPS ADC with Serialized LVDS Output, -40 to 85 degC, 48-pin QFN (RGZ48), Green (RoHS & no Sb/Br); Manufacturer: Texas Instruments; PartNumber: ADS6224IRGZRG4; # Input Channels: 2; Analog Voltage AV/DD(Max)(V): 3.6; Analog Voltage AV/DD(Min)(V): 3; Architecture: Pipeline; ENOB(Bits): 11.4; INL(Max)(+/-LSB): 2.2; Interface: Parallel LVDS, Serial SPI Interface; Resolution(Bits): 12; Sample Rate (max)(SPS): 105M; SFDR(dB): 80; SINAD(dB): 69.8; SNR(dB): 70.8; SubFamily: High Speed ADC (>10MSPS); DatasheetVersion: SLAS543A; PackageVersion: 4204101/F, 06/2011; PackageReference: RGZ48-5150X5150TP; PackageDescription: 48-Pin Plastic Flat Pack, Body 7 x 7 mm, Pitch 0.5 mm; Supplier 1: Digi-Key; Supplier Part Number 1: ADS5203IPFBR-ND; Supplier 2: Mouser; Supplier Part Number 2: 595-ADS5203IPFBR; Digital Supply(Max)(V): 3.6; Digital Supply(Min)(V): 3; Eco-Plan: Green (RoHS & no Sb/Br); Mounting Technology: Surface Mount; Code_JEDEC: MO-220; ComponentLink1Description: Manufacturer URL; ComponentLink1URL: http://www.ti.com/; ComponentLink2Description: Datasheet; ComponentLink2URL: http://www.ti.com/general/docs/lit/getliterature.tsp?genericPartNumber=ADS6224&fileType=pdf; ComponentLink3Description: Package Specification; ComponentLink3URL: http://www.ti.com/lit/ml/mpqf123e/mpqf123e.pdf
footprint TI-RGZ48-5150X5150TP_V (QFN, 48-Leads, Body 7x7mm, Pitch 0.5mm, Thermal Pad 5.15x5.15mm, TI Recommended)
part A pins: 10 INA_M (in) "Differential input signal pair, channel A. If unused, the pins should be tied to VCM. Do not float.", 11 INA_P (in) "Differential input signal pair, channel A. If unused, the pins should be tied to VCM. Do not float.", 15 CFG4 (in) "Parallel input pin. It controls data format and MSB or LSB first modes. See Table 12 for description", 22 CFG2 (in) "Parallel input pin. It controls 12x or 14x serialization and SDR bit clock capture edge. See Table 10 for description. For 12x serialization with DDR bit clock, tie to ground or AVDD.", 23 CFG1 (in) "Parallel input pin. It controls 1-wire or 2-wire interface and DDR or SDR bit clock selection. See Table 9 for description. Tie to AVDD for 2-wire interface with DDR bit clock.", 26 INB_P/IND_P (in), 27 INB_M/IND_M (in), 30 PDNB (in) "Channel B ADC power down control pin.", 31 PDNA (in) "Channel A ADC power down control pin.", 37 DB1_P/UNUSED (hiz), 38 DB1_M/UNUSED (hiz), 39 DB0_P/DB_P (hiz), 40 DB0_M/DB_M (hiz), 45 DA1_P/DA_P (hiz), 46 DA1_M/DA_M (hiz), 47 DA0_P/UNUSED (hiz), 48 DA0_M/UNUSED (hiz)
part B pins: 3 CAP "Connect 2-nF capacitor from pin to ground", 4 RESET (in) "Serial interface reset input. When using the serial interface mode, the user MUST initialize internal registers through hardware RESET by applying a high-going pulse on this pin or by using software reset option.Refer to the (See Datasheet)", 14 NC "Do Not Connect", 16 VCM (io) "Internal reference mode - common-mode voltage output External reference mode - reference input. The voltage forced on this pin sets the internal reference.", 18 CLKP (in) "Differential input clock pair", 19 CLKM (in) "Differential input clock pair", 32 SEN (in) "This pin functions as serial interface enable input when RESET is low. When RESET is high, it controls coarse gain and internal/external reference modes. See Table 6 for description. This pin has an internal pull-up resistor.", 33 SDATA (in) "This pin functions as serial interface data input when RESET is low. When RESET is high, it controls DESKEW, SYNC and global POWER DOWN modes (along with SCLK). See Table 5 for description. This pin has an internal pull-down (See Datasheet)", 34 SCLK (in) "This pin functions as serial interface clock input when RESET is low. When RESET is high, it controls DESKEW, SYNC and global POWER DOWN modes (along with SDATA). See Table 5 for description. This pin has an internal (See Datasheet)", 41 FCLKP (hiz) "Differential frame clock output pair", 42 FCLKM (hiz) "Differential frame clock output pair", 43 DCLKP (hiz) "Differential bit clock output pair", 44 DCLKM (hiz) "Differential bit clock output pair"
part C pins: 1 LGND (power) "Digital ground", 2 LVDD (power) "Digital power supply", 5 LVDD (power) "Digital power supply", 6 AGND (power) "Analog ground", 7 AVDD (power) "Analog power supply", 8 AGND (power) "Analog ground", 9 AGND (power) "Analog ground", 12 AGND (power) "Analog ground", 13 AVDD (power) "Analog power supply", 17 AGND (power) "Analog ground", 20 AGND (power) "Analog ground", 21 CFG3 (power) "RESERVED pin - TIE to ground.", 24 AVDD (power) "Analog power supply", 25 AGND (power) "Analog ground", 28 AGND (power) "Analog ground", 29 AGND (power) "Analog ground", 35 LGND (power) "Digital ground", 36 LVDD (power) "Digital power supply", 49 EP (power) "Connect to ground plane using multiple vias. Refer to Board Design Considerations in application section"

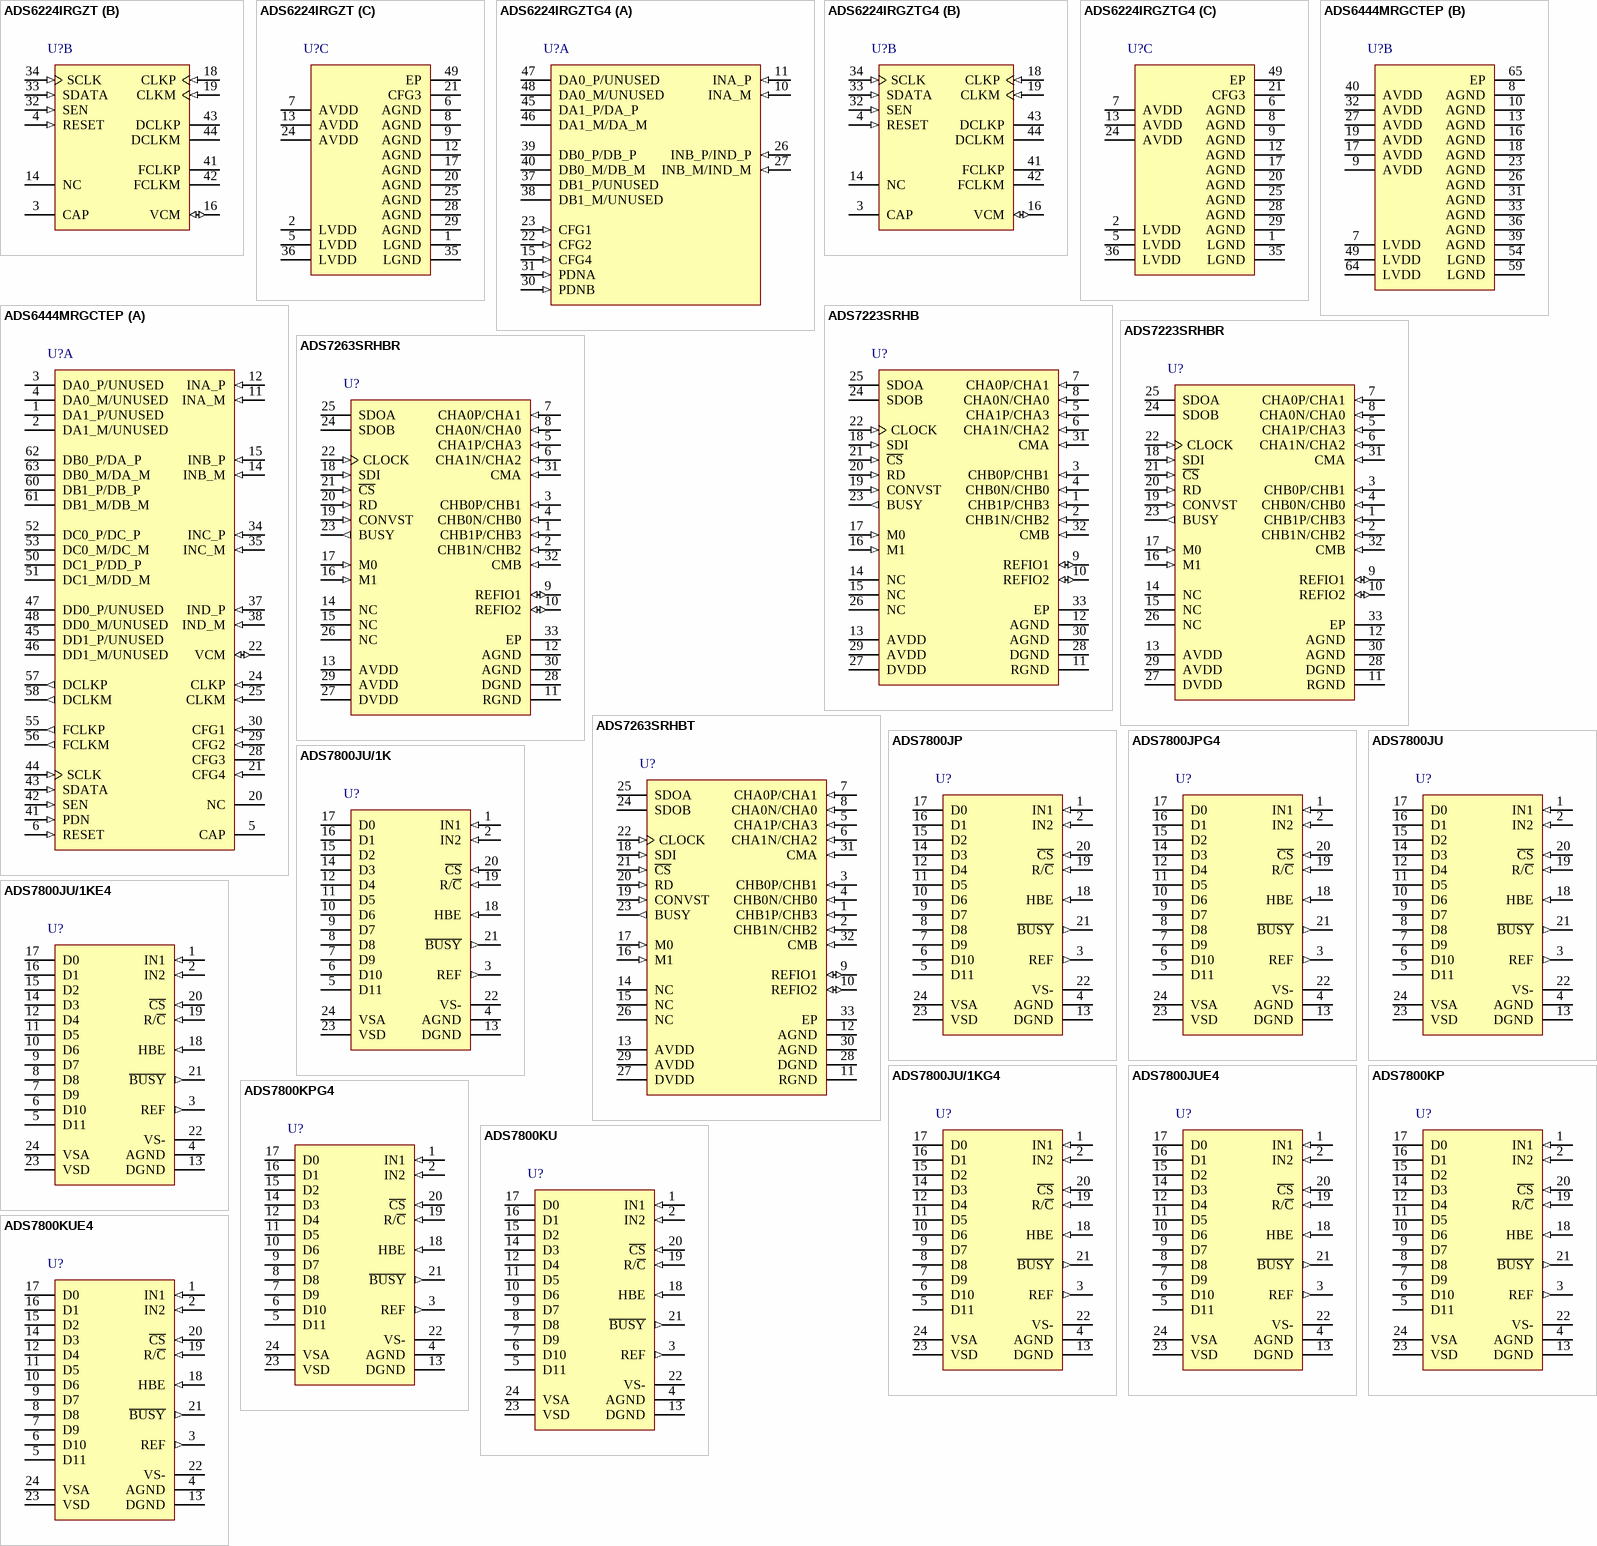
[diagram p57: symbols ADS6224IRGZT to ADS7800KUE4]